# Altium footprint library SiLPA_HE.PcbLib: 129 footprints (part 8 of 9)
Each footprint in its own frame and in the unit in brackets; x right, y up, seen from the top. Pads: shape width x height; smd on the part's side, far side on the other; paste and mask are expansions set on the pad; w line width, h text height; cw(c..) or ccw(c..) is an arc to the next point about the centre after c.
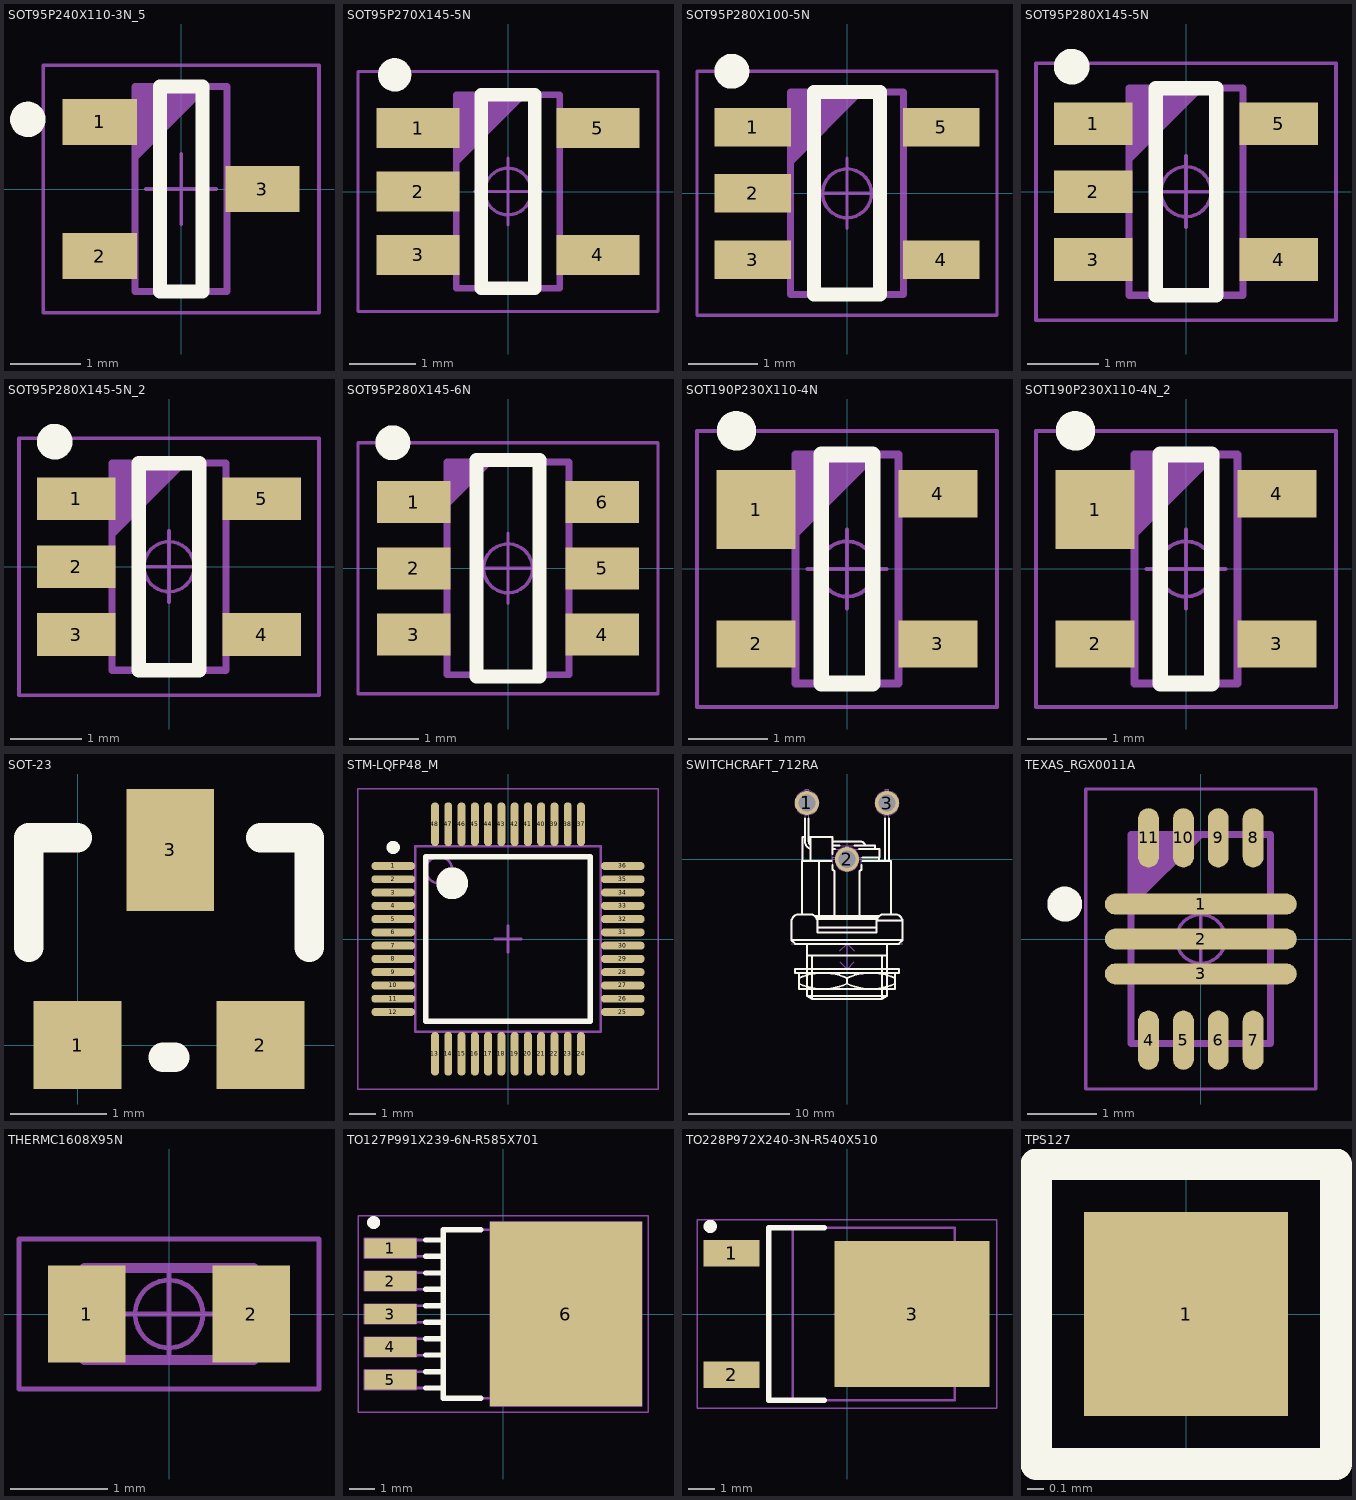
[diagram p7: the footprints below, top view; thin cyan lines are the x and y axes]

## SOT95P240X110-3N_5 [mm]
pads (3):
  rect 1.05x0.65 smd: 1(-1.15,0.95) 2(-1.15,-0.95) 3(1.15,0)
Top Overlay:
  circle w0.25: c-2.168,0.985 r0.125
  lines w0.2: -0.3,-1.45 -0.3,1.45 0.3,1.45 0.3,-1.45 -0.3,-1.45
Mechanical 14:
  lines w0.1: -0.65,0.45 0.35,1.45 ; -0.65,0.55 0.25,1.45 ; -0.65,0.65 0.15,1.45 ; -0.65,0.75 0.05,1.45 ; -0.65,0.85 -0.05,1.45 ; -0.65,0.95 -0.15,1.45 ; -0.65,1.05 -0.25,1.45 ; -0.65,1.15 -0.35,1.45 ; -0.65,1.25 -0.45,1.45 ; -0.65,1.35 -0.55,1.45 ; -0.65,-1.45 0.65,-1.45 0.65,1.45 -0.65,1.45 -0.65,-1.45
Mechanical 15:
  lines w0.05: -0.5,0 0.5,0 ; 0,-0.5 0,0.5 ; -1.95,-1.75 1.95,-1.75 1.95,1.75 -1.95,1.75 -1.95,-1.75
3D body "SOT95P240X110-3N.stp": height 1.1, standoff 0, extent -1.25,-1.5 1.25,1.5

## SOT95P270X145-5N [mm] "SOT, 0.95mm Pitch; 5 Pin,1.55mm W X 2.90mm L X 1.45mm H body, IPC Medium Density"
height 1.45
pads (5):
  rect 1.25x0.6 smd: 1(-1.35,0.95) 2(-1.35,0) 3(-1.35,-0.95) 4(1.35,-0.95) 5(1.35,0.95)
Top Overlay:
  circle w0.25: c-1.7,1.75 r0.125
  lines w0.2: -0.4,-1.45 0.4,-1.45 0.4,1.45 -0.4,1.45 -0.4,-1.45
Mechanical 14:
  lines w0.1: -0.775,0.45 0.225,1.45 ; -0.775,0.55 0.125,1.45 ; -0.775,0.65 0.025,1.45 ; -0.775,0.75 -0.075,1.45 ; -0.775,0.85 -0.175,1.45 ; -0.775,0.95 -0.275,1.45 ; -0.775,1.05 -0.375,1.45 ; -0.775,1.15 -0.475,1.45 ; -0.775,1.25 -0.575,1.45 ; -0.775,1.35 -0.675,1.45 ; -0.775,-1.45 0.775,-1.45 0.775,1.45 -0.775,1.45 -0.775,-1.45
Mechanical 15:
  circle w0.05: c0,0 r0.35
  lines w0.05: -0.5,0 0.5,0 ; 0,-0.5 0,0.5 ; -2.25,-1.8 2.25,-1.8 2.25,1.8 -2.25,1.8 -2.25,-1.8
3D body "SOT95P270X145-5N.stp": height 1.45, standoff 0.01, extent -1.351,-1.45 1.351,1.45

## SOT95P280X100-5N [mm] "SOT23, 0.95mm pitch; 5 pin, 1.625mm W X 2.9mm L, IPC Medium Density"
height 1
pads (5):
  rect 1.1x0.55 smd: 1(-1.35,0.95) 2(-1.35,0) 3(-1.35,-0.95) 4(1.35,-0.95) 5(1.35,0.95)
Top Overlay:
  circle w0.25: c-1.65,1.75 r0.125
  lines w0.2: -0.475,-1.45 0.475,-1.45 0.475,1.45 -0.475,1.45 -0.475,-1.45
Mechanical 14:
  lines w0.1: -0.812,0.45 0.188,1.45 ; -0.812,0.55 0.088,1.45 ; -0.812,0.65 -0.012,1.45 ; -0.812,0.75 -0.112,1.45 ; -0.812,0.85 -0.212,1.45 ; -0.812,0.95 -0.312,1.45 ; -0.812,1.05 -0.412,1.45 ; -0.812,1.15 -0.512,1.45 ; -0.812,1.25 -0.612,1.45 ; -0.812,1.35 -0.712,1.45 ; -0.812,-1.45 0.812,-1.45 0.812,1.45 -0.812,1.45 -0.812,-1.45
Mechanical 15:
  circle w0.05: c0,0 r0.35
  lines w0.05: -0.5,0 0.5,0 ; 0,-0.5 0,0.5 ; -2.15,-1.75 2.15,-1.75 2.15,1.75 -2.15,1.75 -2.15,-1.75
3D body "SOT95P280X100-5N.stp": height 1, standoff 0, extent -1.4,-1.5 1.4,1.5

## SOT95P280X145-5N [mm] "SOT, 0.95mm pitch; 5 pin, 1.60mm W X 2.90mm L X 1.45mm H body, IPC Medium Density"
height 1.45
pads (5):
  rect 1.1x0.6 smd: 1(-1.3,0.95) 2(-1.3,0) 3(-1.3,-0.95) 4(1.3,-0.95) 5(1.3,0.95)
Top Overlay:
  circle w0.25: c-1.6,1.75 r0.125
  lines w0.2: -0.425,-1.45 -0.425,1.45 0.425,1.45 0.425,-1.45 -0.425,-1.45
Mechanical 14:
  lines w0.1: -0.8,0.45 0.2,1.45 ; -0.8,0.55 0.1,1.45 ; -0.8,0.65 0,1.45 ; -0.8,0.75 -0.1,1.45 ; -0.8,0.85 -0.2,1.45 ; -0.8,0.95 -0.3,1.45 ; -0.8,1.05 -0.4,1.45 ; -0.8,1.15 -0.5,1.45 ; -0.8,1.25 -0.6,1.45 ; -0.8,1.35 -0.7,1.45 ; -0.8,-1.45 -0.8,1.45 0.8,1.45 0.8,-1.45 -0.8,-1.45
Mechanical 15:
  circle w0.05: c0,0 r0.35
  lines w0.05: -0.5,0 0.5,0 ; 0,-0.5 0,0.5 ; -2.1,-1.8 -2.1,1.8 2.1,1.8 2.1,-1.8 -2.1,-1.8
3D body "SOT95P280X145-5N.stp": height 1.45, standoff 0, extent -1.4,-1.5 1.4,1.5

## SOT95P280X145-5N_2 [mm]
pads (5):
  rect 1.1x0.6 smd: 1(-1.3,0.95) 2(-1.3,0) 3(-1.3,-0.95) 4(1.3,-0.95) 5(1.3,0.95)
Top Overlay:
  circle w0.25: c-1.6,1.75 r0.125
  lines w0.2: -0.425,-1.45 -0.425,1.45 0.425,1.45 0.425,-1.45 -0.425,-1.45
Mechanical 14:
  lines w0.1: -0.8,0.45 0.2,1.45 ; -0.8,0.55 0.1,1.45 ; -0.8,0.65 0,1.45 ; -0.8,0.75 -0.1,1.45 ; -0.8,0.85 -0.2,1.45 ; -0.8,0.95 -0.3,1.45 ; -0.8,1.05 -0.4,1.45 ; -0.8,1.15 -0.5,1.45 ; -0.8,1.25 -0.6,1.45 ; -0.8,1.35 -0.7,1.45 ; -0.8,-1.45 -0.8,1.45 0.8,1.45 0.8,-1.45 -0.8,-1.45
Mechanical 15:
  circle w0.05: c0,0 r0.35
  lines w0.05: -0.5,0 0.5,0 ; 0,-0.5 0,0.5 ; -2.1,-1.8 -2.1,1.8 2.1,1.8 2.1,-1.8 -2.1,-1.8
3D body "SOT95P280X145-5N.stp": height 1.45, standoff 0, extent -1.4,-1.5 1.4,1.5

## SOT95P280X145-6N [mm] "SOT23, 6-Leads, Body 1.6x3.0mm, Pitch 0.95mm, IPC Medium Density"
height 1.45
pads (6):
  rect 1.05x0.6 smd: 1(-1.35,0.95) 2(-1.35,0) 3(-1.35,-0.95) 4(1.35,-0.95) 5(1.35,0) 6(1.35,0.95)
Top Overlay:
  circle w0.25: c-1.65,1.8 r0.125
  lines w0.2: -0.45,-1.55 0.45,-1.55 0.45,1.55 -0.45,1.55 -0.45,-1.55
Mechanical 14:
  lines w0.1: -0.875,0.925 -0.275,1.525 ; -0.875,1.025 -0.375,1.525 ; -0.875,1.125 -0.475,1.525 ; -0.875,1.225 -0.575,1.525 ; -0.875,1.325 -0.675,1.525 ; -0.875,1.425 -0.775,1.525 ; -0.875,-1.525 -0.875,1.525 0.875,1.525 0.875,-1.525 -0.875,-1.525
Mechanical 15:
  circle w0.05: c0,0 r0.35
  lines w0.05: -0.5,0 0.5,0 ; 0,-0.5 0,0.5 ; -2.15,-1.8 -2.15,1.8 2.15,1.8 2.15,-1.8 -2.15,-1.8
3D body "SOT95P280X145-6N.stp": height 1.45, standoff 0, extent -1.4,-1.5 1.4,1.5

## SOT190P230X110-4N [mm] "SOT143, SOT, 1.90mm Pitch; 4 Pin, 1.30mm W X 2.90mm L X 1.10mm H body, IPC Medium Density"
height 1.1
pads (4):
  rect 1x1 smd: 1(-1.15,0.75)
  rect 1x0.6 smd: 2(-1.15,-0.95) 3(1.15,-0.95) 4(1.15,0.95)
Top Overlay:
  circle w0.25: c-1.4,1.75 r0.125
  lines w0.2: -0.325,-1.45 0.325,-1.45 0.325,1.45 -0.325,1.45 -0.325,-1.45
Mechanical 14:
  lines w0.1: -0.65,0.45 0.35,1.45 ; -0.65,0.55 0.25,1.45 ; -0.65,0.65 0.15,1.45 ; -0.65,0.75 0.05,1.45 ; -0.65,0.85 -0.05,1.45 ; -0.65,0.95 -0.15,1.45 ; -0.65,1.05 -0.25,1.45 ; -0.65,1.15 -0.35,1.45 ; -0.65,1.25 -0.45,1.45 ; -0.65,1.35 -0.55,1.45 ; -0.65,-1.45 0.65,-1.45 0.65,1.45 -0.65,1.45 -0.65,-1.45
Mechanical 15:
  circle w0.05: c0,0 r0.35
  lines w0.05: -0.5,0 0.5,0 ; 0,-0.5 0,0.5 ; -1.9,-1.75 1.9,-1.75 1.9,1.75 -1.9,1.75 -1.9,-1.75
3D body "SOT143N.stp": height 1.1, standoff 0, extent -1.25,-1.5 1.25,1.5

## SOT190P230X110-4N_2 [mm]
pads (4):
  rect 1x1 smd: 1(-1.15,0.75)
  rect 1x0.6 smd: 2(-1.15,-0.95) 3(1.15,-0.95) 4(1.15,0.95)
Top Overlay:
  circle w0.25: c-1.4,1.75 r0.125
  lines w0.2: -0.325,-1.45 0.325,-1.45 0.325,1.45 -0.325,1.45 -0.325,-1.45
Mechanical 14:
  lines w0.1: -0.65,0.45 0.35,1.45 ; -0.65,0.55 0.25,1.45 ; -0.65,0.65 0.15,1.45 ; -0.65,0.75 0.05,1.45 ; -0.65,0.85 -0.05,1.45 ; -0.65,0.95 -0.15,1.45 ; -0.65,1.05 -0.25,1.45 ; -0.65,1.15 -0.35,1.45 ; -0.65,1.25 -0.45,1.45 ; -0.65,1.35 -0.55,1.45 ; -0.65,-1.45 0.65,-1.45 0.65,1.45 -0.65,1.45 -0.65,-1.45
Mechanical 15:
  circle w0.05: c0,0 r0.35
  lines w0.05: -0.5,0 0.5,0 ; 0,-0.5 0,0.5 ; -1.9,-1.75 1.9,-1.75 1.9,1.75 -1.9,1.75 -1.9,-1.75
3D body "SOT143N.stp": height 1.1, standoff 0, extent -1.25,-1.5 1.25,1.5

## SOT-23 [mil]
pads (3):
  rect 36x36 smd: 1(0,0) 2(75,0)
  rect 36x50 smd: 3(38,80)
Top Overlay:
  lines w12: -20,40 -20,85 0,85 ; 35,-5 40,-5 ; 75,85 95,85 95,40
3D body "SOT95P229X119-3N.stp": height 46.85, standoff 0.08, extent -21,-5.21 97.11,93.21

## STM-LQFP48_M [mm] "QFP, 48-Leads, Body 7x7mm, Pitch 0.5mm, IPC Low Density"
height 1.6
pads (48):
  oval 1.65x0.3 smd: 1(-4.325,2.75) 2(-4.325,2.25) 3(-4.325,1.75) 4(-4.325,1.25) 5(-4.325,0.75) 6(-4.325,0.25) 7(-4.325,-0.25) 8(-4.325,-0.75) 9(-4.325,-1.25) 10(-4.325,-1.75) 11(-4.325,-2.25) 12(-4.325,-2.75) 25(4.325,-2.75) 26(4.325,-2.25) 27(4.325,-1.75) 28(4.325,-1.25) 29(4.325,-0.75) 30(4.325,-0.25) 31(4.325,0.25) 32(4.325,0.75) 33(4.325,1.25) 34(4.325,1.75) 35(4.325,2.25) 36(4.325,2.75)
  oval 0.3x1.65 smd: 13(-2.75,-4.325) 14(-2.25,-4.325) 15(-1.75,-4.325) 16(-1.25,-4.325) 17(-0.75,-4.325) 18(-0.25,-4.325) 19(0.25,-4.325) 20(0.75,-4.325) 21(1.25,-4.325) 22(1.75,-4.325) 23(2.25,-4.325) 24(2.75,-4.325) 37(2.75,4.325) 38(2.25,4.325) 39(1.75,4.325) 40(1.25,4.325) 41(0.75,4.325) 42(0.25,4.325) 43(-0.25,4.325) 44(-0.75,4.325) 45(-1.25,4.325) 46(-1.75,4.325) 47(-2.25,4.325) 48(-2.75,4.325)
Top Overlay:
  circle w0.6: c-2.1,2.1 r0.3
  circle w0.25: c-4.325,3.45 r0.125
  lines w0.2: -3.1,-3.1 3.1,-3.1 3.1,3.1 -3.1,3.1 -3.1,-3.1
Mechanical 13:
  circle w0.1: c-2.6,2.6 r0.5
  lines w0.1: -3.5,-3.5 3.5,-3.5 3.5,3.5 -3.5,3.5 -3.5,-3.5
Mechanical 15:
  lines w0.05: -5.65,-5.65 5.65,-5.65 5.65,5.65 -5.65,5.65 -5.65,-5.65
  lines w0.1: -0.5,0 0.5,0 ; 0,-0.5 0,0.5
3D body: height 1.6, standoff 0.05, extent -3.5,-3.5 3.5,3.5

## SWITCHCRAFT_712RA [mm] "2.5 mm Center Pin, 5A, 48VDC, Right Angle, Through Hole, Locking Power Jack Connector (Threaded Bushings)"
height 13.8
pads (3):
  round 2.4 hole 1.7: 1(-3.972,5.578) 2(0,0) 3(3.965,5.573)
Top Overlay:
  lines w0.2: -4.762,-12.334 ccw(c-2.381,-7.096) 0,-12.334 ccw(c2.381,-7.096) 4.762,-12.334 ; -4.762,-11.778 cw(c-2.381,-17.016) 0,-11.778 cw(c2.381,-17.016) 4.762,-11.778 ; -4.762,-11.262 -4.762,-12.849 4.762,-12.85 4.762,-11.262 ; -4.445,-5.464 -4.445,-0.18 -1.539,-0.18 -4.421,-0.18 -4.421,2.182 -4.15,2.182 ; -4.15,4.038 -4.15,1.755 ccw(c-3.388,1.755) -3.6,1.023 ; -3.962,-8.385 -3.962,-9.528 ; -3.794,2.182 -1.46,2.182 -1.46,0.519 ; -3.794,4.038 -3.794,1.755 ccw(c-3.388,1.755) -3.6,1.408 ; -3.6,-0.18 -3.6,2.182 ; -3.467,-9.528 -3.467,-13.846 3.467,-13.846 ; -3.465,-13.846 -3.96,-13.56 ; -3.185,-5.645 3.185,-5.645 ; -3.134,-5.7 3.134,-5.7 ; -2.998,-5.921 2.998,-5.921 ; -2.946,-6.777 2.946,-6.777 ; -2.766,-5.645 -2.766,-0.18 ; -1.46,0.993 -1.19,0.993 ; -1.46,1.349 -0.764,1.349 ; -1.46,1.742 1.385,1.742 cw(c1.385,1.349) 1.778,1.349 ; -1.435,-0.586 -1.435,-1.064 cw(c-1.423,-1.242) -1.245,-1.242 -1.245,-5.645 ; 0,-12.337 0,-11.781 ; 0.764,1.349 2.769,1.349 2.769,0.993 ; 1.19,0.993 3.2,0.993 3.2,0.18 1.539,0.18 2.582,0.18 ; 1.245,-5.645 1.245,-1.242 cw(c1.423,-1.242) 1.435,-1.064 1.435,-0.586 ; 3.175,-0.18 3.175,0.18 ; 3.467,-9.528 3.467,-13.846 ; 3.785,-0.18 3.785,4.033 ; 3.949,-9.528 3.962,-13.56 ; 3.962,-8.385 3.962,-9.528 -3.962,-9.528 ; 4.144,-0.18 4.145,4.033 ; 4.369,-5.464 4.369,-0.18 ; -5.512,-8.004 -5.131,-8.385 ; -5.512,-8.004 -5.512,-6.085 ; -5.512,-8.004 -5.512,-6.085 ; -5.512,-8.004 -5.131,-8.385 ; -5.512,-8.004 5.512,-8.004 ; -5.512,-6.085 cw(c-4.69,-6.266) -4.944,-5.464 -3.446,-5.464 cw(c-3.813,-6.27) -2.946,-6.085 -2.946,-7.242 2.946,-7.242 2.946,-6.085 ; -5.131,-8.385 5.131,-8.385 5.512,-8.004 ; -3.962,-9.528 -3.96,-13.56 ; -3.96,-13.56 3.962,-13.56 ; 1.778,1.349 1.778,1.349 ; 2.946,-6.085 cw(c3.813,-6.27) 3.446,-5.464 4.944,-5.464 cw(c4.69,-6.266) 5.512,-6.085 ; 2.946,-6.085 5.512,-6.085 ; 3.467,-13.846 3.962,-13.56 ; 4.369,-0.18 1.539,-0.18 4.369,-0.18 ; 5.512,-8.004 5.512,-6.085 ; -5.169,-11.262 -5.169,-10.881 5.169,-10.881 5.169,-11.262 -5.169,-11.262
Mechanical 8:
  circle w0.1: c3.965,5.573 r0.85
  circle w0.1: c3.965,5.573 r1.2
  circle w0.1: c-3.972,5.578 r0.85
  circle w0.1: c-3.972,5.578 r1.2
  circle w0.1: c0,0 r0.85
  circle w0.1: c0,0 r1.2
  lines w0.1: -5.512,-8.381 0,-8.385 ; -4.472,5.578 -3.972,5.578 ; -3.972,5.078 -3.972,5.578 ; -3.972,6.078 -3.972,5.578 ; -3.472,5.578 -3.972,5.578 ; -0.707,-10.174 0,-10.881 ; -0.707,-9.092 0,-8.385 ; -0.5,0 0,0 ; 0,-0.5 0,0 ; 0,0.5 0,0 ; 0.5,0 0,0 ; 0.707,-10.174 0,-10.881 ; 0.707,-9.092 0,-8.385 ; 3.465,5.573 3.965,5.573 ; 3.965,5.073 3.965,5.573 ; 3.965,6.073 3.965,5.573 ; 4.465,5.573 3.965,5.573 ; 5.512,-8.388 0,-8.385 ; 0,-10.881 0,-8.385
  text "CENTER PIN" at -3.7,0.075 h0.5
  text "SLEEVE SHUNT" at 4.225,-1.025 h0.5
  text "2.5mm" at -3.3,-10 h1
Mechanical 14:
  lines w0.1: -4.762,-12.334 ccw(c-2.381,-7.096) 0,-12.334 ccw(c2.381,-7.096) 4.762,-12.334 ; -4.762,-11.778 cw(c-2.381,-17.016) 0,-11.778 cw(c2.381,-17.016) 4.762,-11.778 ; -4.762,-11.262 -4.762,-12.849 4.762,-12.85 4.762,-11.262 ; -4.445,-5.464 -4.445,-0.18 -1.435,-0.18 -4.421,-0.18 -4.421,2.182 -4.15,2.182 ; -4.15,4.943 -4.861,4.943 -4.861,6.213 -4.15,6.213 ; -3.962,-8.385 -3.962,-9.528 ; -3.794,2.182 -1.46,2.182 -1.46,-0.18 ; -3.6,-0.18 -3.6,2.182 ; -3.6,1.023 cw(c-3.388,1.755) -4.15,1.755 -4.15,6.962 -3.794,6.962 -3.794,1.755 ccw(c-3.388,1.755) -3.6,1.408 ; -3.467,-9.528 -3.467,-13.846 3.467,-13.846 ; -3.465,-13.846 -3.96,-13.56 ; -3.185,-5.645 3.185,-5.645 ; -3.134,-5.7 3.134,-5.7 ; -2.998,-5.921 2.998,-5.921 ; -2.946,-6.777 2.946,-6.777 ; -2.766,-5.645 -2.766,-0.18 ; -1.46,0.18 3.2,0.18 3.2,0.993 -1.46,0.993 ; -1.46,1.349 2.769,1.349 2.769,0.993 ; -1.46,1.742 1.385,1.742 cw(c1.385,1.349) 1.778,1.349 ; -1.435,0.18 -1.435,-1.064 cw(c-1.423,-1.242) -1.245,-1.242 -1.245,-5.645 ; 0,-12.337 0,-11.781 ; 0.178,0.18 2.582,0.18 ; 1.245,-5.645 1.245,-1.242 cw(c1.423,-1.242) 1.435,-1.064 1.435,0.18 ; 3.175,-0.18 3.175,0.18 ; 3.467,-9.528 3.467,-13.846 ; 3.785,-0.18 3.785,6.949 4.145,6.949 4.144,-0.18 ; 3.949,-9.528 3.962,-13.56 ; 3.962,-8.385 3.962,-9.528 -3.962,-9.528 ; 4.145,4.938 4.851,4.938 4.851,6.208 4.145,6.208 ; 4.369,-5.464 4.369,-0.18 ; -5.512,-8.004 -5.131,-8.385 ; -5.512,-8.004 -5.512,-6.085 ; -5.512,-8.004 -5.512,-6.085 ; -5.512,-8.004 -5.131,-8.385 ; -5.512,-8.004 5.512,-8.004 ; -5.512,-6.085 cw(c-4.69,-6.266) -4.944,-5.464 -3.446,-5.464 cw(c-3.813,-6.27) -2.946,-6.085 -2.946,-7.242 2.946,-7.242 2.946,-6.085 ; -5.131,-8.385 5.131,-8.385 5.512,-8.004 ; -3.962,-9.528 -3.96,-13.56 ; -3.96,-13.56 3.962,-13.56 ; 1.778,1.349 1.778,1.349 ; 2.946,-6.085 cw(c3.813,-6.27) 3.446,-5.464 4.944,-5.464 cw(c4.69,-6.266) 5.512,-6.085 ; 2.946,-6.085 5.512,-6.085 ; 3.467,-13.846 3.962,-13.56 ; 4.369,-0.18 1.435,-0.18 4.369,-0.18 ; 5.512,-8.004 5.512,-6.085 ; -5.169,-11.262 5.169,-11.262 5.169,-10.881 -5.169,-10.881 -5.169,-11.262
3D body "SWITCHCRAFT_712RA_Part1.stp": height 13.89, standoff -3.56, extent -5.512,-13.845 5.512,6.962
3D body "SWITCHCRAFT_712RA_Part2.stp": height 13.88, standoff 2.88, extent -5.169,-12.849 5.169,-10.881

## TEXAS_RGX0011A [mm] "TEXAS Case Style (R-VQFN-HR-N11), 0.50mm Pitch, 11-pin, 2.00mm W X 3.00mm L X 1.00mm H Body"
height 1
pads (11):
  oval 2.75x0.3 smd: 1(0,0.5) 2(0,0) 3(0,-0.5)
  oval 0.3x0.85 smd: 4(-0.75,-1.45) 5(-0.25,-1.45) 6(0.25,-1.45) 7(0.75,-1.45) 8(0.75,1.45) 9(0.25,1.45) 10(-0.25,1.45) 11(-0.75,1.45)
Top Overlay:
  circle w0.25: c-1.95,0.5 r0.125
Mechanical 14:
  lines w0.1: -1,0.5 0,1.5 ; -1,0.6 -0.1,1.5 ; -1,0.7 -0.2,1.5 ; -1,0.8 -0.3,1.5 ; -1,0.9 -0.4,1.5 ; -1,1 -0.5,1.5 ; -1,1.1 -0.6,1.5 ; -1,1.2 -0.7,1.5 ; -1,1.3 -0.8,1.5 ; -1,1.4 -0.9,1.5 ; -1,-1.5 1,-1.5 1,1.5 -1,1.5 -1,-1.5
Mechanical 15:
  circle w0.05: c0,0 r0.35
  lines w0.05: -0.5,0 0.5,0 ; 0,-0.5 0,0.5 ; -1.65,-2.15 1.65,-2.15 1.65,2.15 -1.65,2.15 -1.65,-2.15
3D body "TEXAS_RGX0011A.stp": height 1, standoff 0, extent -1,-1.5 1,1.5

## THERMC1608X95N [mm] "PTC Thermistors, Chip; 1.6mm L X 0.8mm W X 0.95mm H, IPC Medium Density"
height 0.95
pads (2):
  rect 0.8x1 smd: 1(-0.85,0) 2(0.85,0)
Mechanical 14:
  lines w0.1: -0.875,-0.475 0.875,-0.475 0.875,0.475 -0.875,0.475 ; -0.875,-0.475 -0.875,0.475 ; -0.875,-0.475 -0.875,-0.475 ; -0.875,0.475 -0.875,0.475
Mechanical 15:
  circle w0.05: c0,0 r0.35
  lines w0.05: -0.5,0 0.5,0 ; 0,-0.5 0,0.5 ; -1.55,-0.775 1.55,-0.775 1.55,0.775 -1.55,0.775 -1.55,-0.775
3D body "THERMC1608X95N.stp": height 0.95, standoff 0, extent -0.875,-0.475 0.875,0.475

## TO127P991X239-6N-R585X701 [mm] "TO-252 DPAK TO, 1.27mm Pitch; 5 Pin, 10.3mm L X 8.781mm W X 2.39mm H body"
height 2.39
pads (6):
  rect 2x0.76 smd: 1(-4.35,2.54) 2(-4.35,1.27) 3(-4.35,0) 4(-4.35,-1.27) 5(-4.35,-2.54)
  rect 5.85x7.1 smd: 6(2.425,0)
Top Overlay:
  circle w0.25: c-5,3.53 r0.125
  lines w0.2: -3,-2.855 -2.31,-2.855 ; -3,-2.225 -2.31,-2.225 ; -3,-1.585 -2.31,-1.585 ; -3,-0.955 -2.31,-0.955 ; -3,-0.315 -2.31,-0.315 ; -3,0.315 -2.31,0.315 ; -3,0.955 -2.31,0.955 ; -3,1.585 -2.31,1.585 ; -3,2.225 -2.31,2.225 ; -3,2.855 -2.31,2.855 ; -0.85,-3.25 -2.31,-3.25 -2.31,3.25 -0.85,3.25
Mechanical 8:
  lines w0.05: -0.5,0 0,0 ; 0,-0.5 0,0 ; 0,0.5 0,0 ; 0.5,0 0,0 ; -5.35,-2.92 -3.35,-2.92 -3.35,-2.16 -5.35,-2.16 ; -5.35,-2.92 -5.35,-2.16 ; -5.35,-2.92 -4.35,-2.54 -5.35,-2.16 ; -5.35,-1.65 -3.35,-1.65 -3.35,-0.89 -5.35,-0.89 ; -5.35,-1.65 -5.35,-0.89 ; -5.35,-1.65 -4.35,-1.27 -5.35,-0.89 ; -5.35,-0.38 -3.35,-0.38 -3.35,0.38 -5.35,0.38 ; -5.35,-0.38 -5.35,0.38 ; -5.35,-0.38 -4.35,0 -5.35,0.38 ; -5.35,0.89 -3.35,0.89 -3.35,1.65 -5.35,1.65 ; -5.35,0.89 -5.35,1.65 ; -5.35,0.89 -4.35,1.27 -5.35,1.65 ; -5.35,2.16 -3.35,2.16 -3.35,2.92 -5.35,2.92 ; -5.35,2.16 -5.35,2.92 ; -5.35,2.16 -4.35,2.54 -5.35,2.92 ; 5.35,-3.55 5.35,3.55 ; 5.35,-3.55 -0.5,-3.55 -0.5,3.55 5.35,3.55 ; 5.35,-3.55 2.425,0 5.35,3.55
Mechanical 14:
  lines w0.1: -2.31,-2.855 -4.901,-2.855 -4.901,-2.225 -2.31,-2.225 ; -2.31,-1.585 -4.901,-1.585 -4.901,-0.955 -2.31,-0.955 ; -2.31,-0.315 -4.901,-0.315 -4.901,0.315 -2.31,0.315 ; -2.31,0.955 -4.901,0.955 -4.901,1.585 -2.31,1.585 ; -2.31,2.225 -4.901,2.225 -4.901,2.855 -2.31,2.855 ; 3.851,-2.6 4.369,-2.6 4.901,-1.567 4.901,1.567 4.369,2.6 3.851,2.6 ; -2.31,-3.25 3.787,-3.25 3.851,-3.185 3.851,3.185 3.776,3.25 -2.31,3.25 -2.31,-3.25
Mechanical 15:
  circle w0.05: c0,0 r0.35
  lines w0.05: -0.5,0 0.5,0 ; 0,-0.5 0,0.5 ; -5.6,-3.8 -5.6,3.8 5.6,3.8 5.6,-3.8 -5.6,-3.8
3D body "TO127P991X239-6N-R585X701.stp": height 2.24, standoff -0.15, extent -4.901,-3.25 4.902,3.25

## TO228P972X240-3N-R540X510 [mm] "TO-252 DPAK TO, 2.28mm Pitch; 2 Pin, 9.725mm L X 6.50mm W X 2.40mm H body, IPC Medium Density"
height 2.4
pads (3):
  rect 2.1x1 smd: 1(-4.35,2.28) 2(-4.35,-2.28)
  rect 5.85x5.5 smd: 3(2.45,0)
Top Overlay:
  circle w0.25: c-5.15,3.3 r0.125
  lines w0.2: -0.85,-3.25 -2.95,-3.25 -2.95,3.25 -0.85,3.25
Top Paste:
  region: 0.22,-2.05 2.1,-2.05 2.1,-0.35 0.22,-0.35
  region: 2.8,-2.05 4.68,-2.05 4.68,-0.35 2.8,-0.35
  region: 0.22,0.35 2.1,0.35 2.1,2.05 0.22,2.05
  region: 2.8,0.35 4.68,0.35 4.68,2.05 2.8,2.05
Mechanical 14:
  lines w0.1: 4.062,-2.65 4.326,-2.65 4.863,-2.056 4.863,2.056 4.327,2.65 4.063,2.65 ; -2.037,-3.25 -2.037,3.25 4.062,3.25 4.062,-3.25 -2.037,-3.25
Mechanical 15:
  lines w0.05: -0.5,0 0.5,0 ; 0,-0.5 0,0.5 ; -5.65,-3.55 -5.65,3.55 5.65,3.55 5.65,-3.55 -5.65,-3.55
3D body "TO228P972X240-3N-R540X510.stp": height 2.4, standoff 0, extent -4.9,-3.3 4.82,3.3

## TPS127 [mm] "1.27 x  1.27mm SMD Test Point Area"
height 5.6
pads (1):
  rect 1.27x1.27 smd paste-1.27: 1(0,0)
Top Overlay:
  lines w0.2: -0.935,-0.935 -0.935,0.935 0.935,0.935 0.935,-0.935 -0.935,-0.935
Mechanical 14:
  lines w0.1: -0.585,-0.585 -0.585,0.585 0.585,0.585 0.585,-0.585 -0.585,-0.585